# Altium schematic symbol library reg_switching_flyback.SchLib: 6 symbols
Pins are listed as number, name and electrical type; pins without a type are passive.

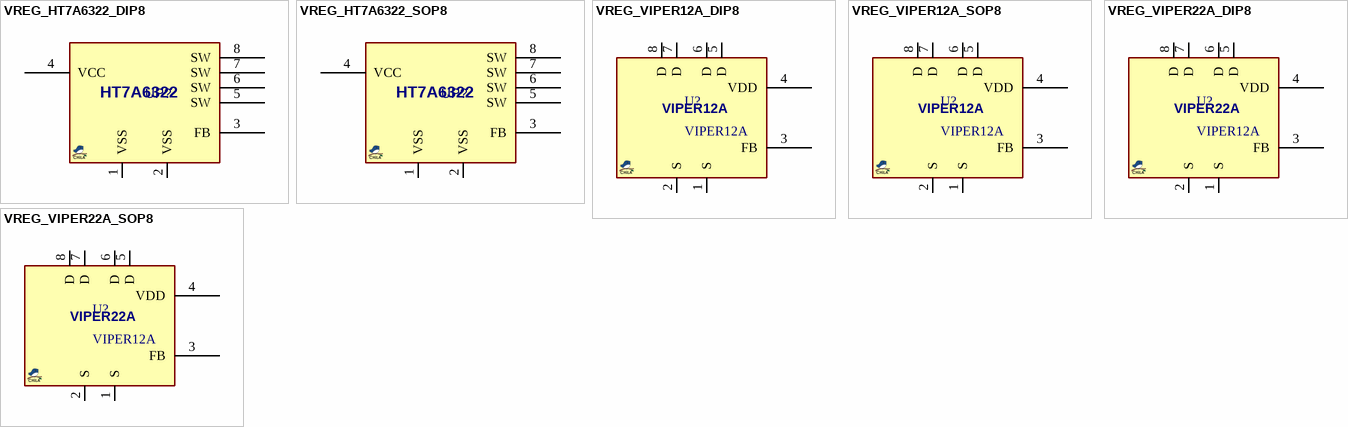
[diagram p0: symbols VREG_HT7A6322_DIP8 to VREG_VIPER22A_SOP8]

## VREG_HT7A6322_DIP8
designator UP?, comment HT7A6322  (value not drawn)
REG, Switching, FlyBack, Low Power, Offline, Primary; MANF: HOLTEK; PARAM: 20/12W, 60KHz, -40~150°C; PARAM2: 85~265VACIN, 9~38VDD; ASSEMBLY: ASSEMBLY; PRICE: -; MANF_P#: HT7A6322; VALUE: HT7A6322
footprint DIP_8 (DIP, pitch 2.54mm, 300mil Width)
pins: 1 VSS (power), 2 VSS (power), 3 FB, 4 VCC (power), 5 SW, 6 SW, 7 SW, 8 SW

## VREG_HT7A6322_SOP8
designator UP?, comment HT7A6322  (value not drawn)
REG, Switching, FlyBack, Low Power, Offline, Primary; MANF: HOLTEK; PARAM: 12/7W, 60KHz, -40~150°C; PARAM2: 85~265VACIN, 9~38VDD; ASSEMBLY: ASSEMBLY; PRICE: -; MANF_P#: HT7A6322; VALUE: HT7A6322
footprint DIP_8 (DIP, pitch 2.54mm, 300mil Width)
pins: 1 VSS (power), 2 VSS (power), 3 FB, 4 VCC (power), 5 SW, 6 SW, 7 SW, 8 SW

## VREG_VIPER12A_DIP8
designator U?, comment VIPER12A
REG, Switching, FlyBack, Low Power, Offline, Primary; MANF: ST; MANF_P#: VIPer12ADIP, VIPer12ADIP-E; PARAM2: 195~265/85~265VacIN, 9~38VDD; PARAM: 13W/8W, 60KHz, -40~150°C; ASSEMBLY: ASSEMBLY; VALUE: VIPER12A
footprint DIP_8 (DIP, pitch 2.54mm, 300mil Width)
pins: 1 S, 2 S, 3 FB, 4 VDD, 5 D, 6 D, 7 D, 8 D

## VREG_VIPER12A_SOP8
designator U?, comment VIPER12A
REG, Switching, FlyBack, Low Power, Offline, Primary; MANF: ST; MANF_P#: VIPer12AS, VIPer12AS-E; PARAM2: 195~265/85~265VacIN, 9~38VDD; PARAM: 8W/5W, 60KHz, -40~150°C; ASSEMBLY: ASSEMBLY; VALUE: VIPER12A
footprint SO_8 (SOP-8, 5x3.9mm body 1.27mm pitch, SOT96-1, M08A, S8, SOIC8, VO8, MS-012AA(JEDEC), R-8, 8S2, VOG8)
pins: 1 S, 2 S, 3 FB, 4 VDD, 5 D, 6 D, 7 D, 8 D

## VREG_VIPER22A_DIP8
designator U?, comment VIPER12A
REG, Switching, FlyBack, Low Power, Offline, Primary; MANF: ST; MANF_P#: VIPer22ADIP, VIPer22ADIP-E; PARAM2: 195~265/85~265VacIN, 9~38VDD; PARAM: 20W/12W, 60KHz, -40~150°C; ASSEMBLY: ASSEMBLY; VALUE: VIPER12A
footprint DIP_8 (DIP, pitch 2.54mm, 300mil Width)
pins: 1 S, 2 S, 3 FB, 4 VDD, 5 D, 6 D, 7 D, 8 D
text: VIPER22A

## VREG_VIPER22A_SOP8
designator U?, comment VIPER12A
REG, Switching, FlyBack, Low Power, Offline, Primary; MANF: ST; MANF_P#: VIPer22AS, VIPer22AS-E; PARAM2: 195~265/85~265VacIN, 9~38VDD; PARAM: 12W/7W, 60KHz, -40~150°C; ASSEMBLY: ASSEMBLY; VALUE: VIPER12A
footprint SO_8 (SOP-8, 5x3.9mm body 1.27mm pitch, SOT96-1, M08A, S8, SOIC8, VO8, MS-012AA(JEDEC), R-8, 8S2, VOG8)
pins: 1 S, 2 S, 3 FB, 4 VDD, 5 D, 6 D, 7 D, 8 D
text: VIPER22A